# Altium schematic symbol library Schlib2.SchLib: 1 symbol
Pins are listed as number, name and electrical type; pins without a type are passive.

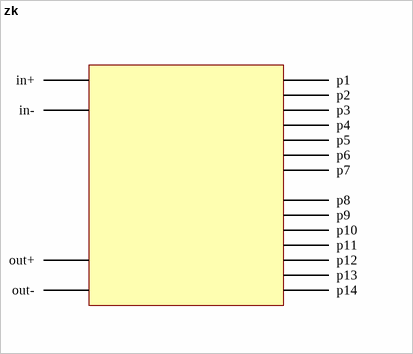
[diagram p0: symbol zk]

## zk
designator zk  (value not drawn)
pins: 61 p1, 62 p2, 63 p3, 64 p4, 65 p5, 66 p6, 67 p7, 68 p14, 69 p13, 70 p12, 71 p11, 72 p10, 73 p9, 74 p8, 75 in+, 76 in-, 77 out+, 78 out-